# EAGLE library part ROTARY8E (library dec-con)
Rotary Reed Switch, as used in early 8/E bulb panels.
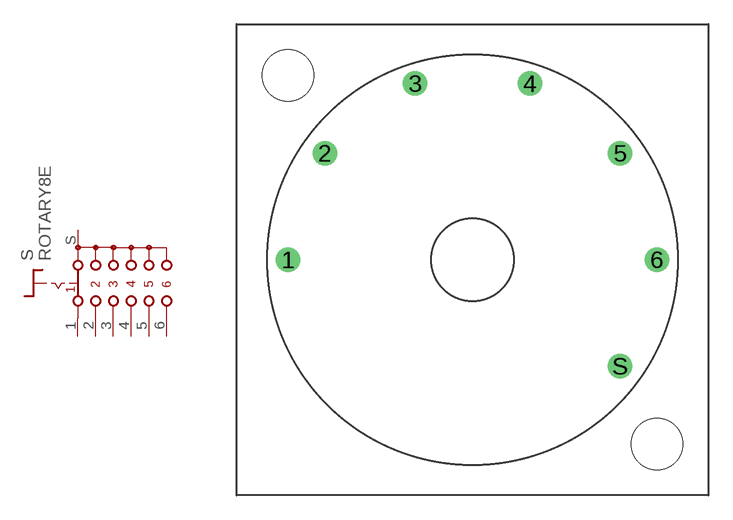
[diagram p63: symbol with the pads of ROTARY-8E; footprint ROTARY-8E]

Designator prefix S

## ROTARY8E  [ROTARY-8E]
1  1  pas
2  2  pas
3  3  pas
4  4  pas
5  5  pas
6  6  pas
S  S  pas

## Footprint ROTARY-8E (pad centres in mm)
Rotary Reed Switch, as used in the PDP-8/E.
drill 1.016: 1 -11.43,0; 2 -9.144,6.604; 3 -3.556,10.922; 4 3.556,10.922; 5 9.144,6.604; 6 11.43,0; S 9.144,-6.604
hole 3.175 at -11.43,11.43
hole 3.175 at 11.43,-11.43